# Altium schematic symbol library Resistors-CurrentSense.SchLib: 2 symbols
Pins are listed as number, name and electrical type; pins without a type are passive.

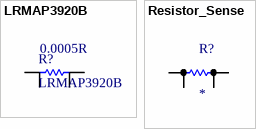
[diagram p0: symbols LRMAP3920B to Resistor_Sense]

## LRMAP3920B
designator R?  value 0.0005R
Current Sense Resistor, 0.0005R; Manufacturer: IRC / TT Electronics; Power: 5W; Tolerance: 1%; PartNumber: LRMAP3920B; PackageReference: 2726; Mounting Technology: Surface Mount
simulation model RESISTOR (Resistor)
signal-integrity model Res
footprint LRMAP3920B
pins: 1, 2, 3, 4

## Resistor_Sense
designator R?
Resistor, single, 4 pins
pins: 1, 2, 3, 4